# Altium footprint library DF37B-24DP-0.4V.PcbLib: 1 footprints
Each footprint in its own frame and in the unit in brackets; x right, y up, seen from the top. Pads: shape width x height; smd on the part's side, far side on the other; paste and mask are expansions set on the pad; w line width, h text height; cw(c..) or ccw(c..) is an arc to the next point about the centre after c.
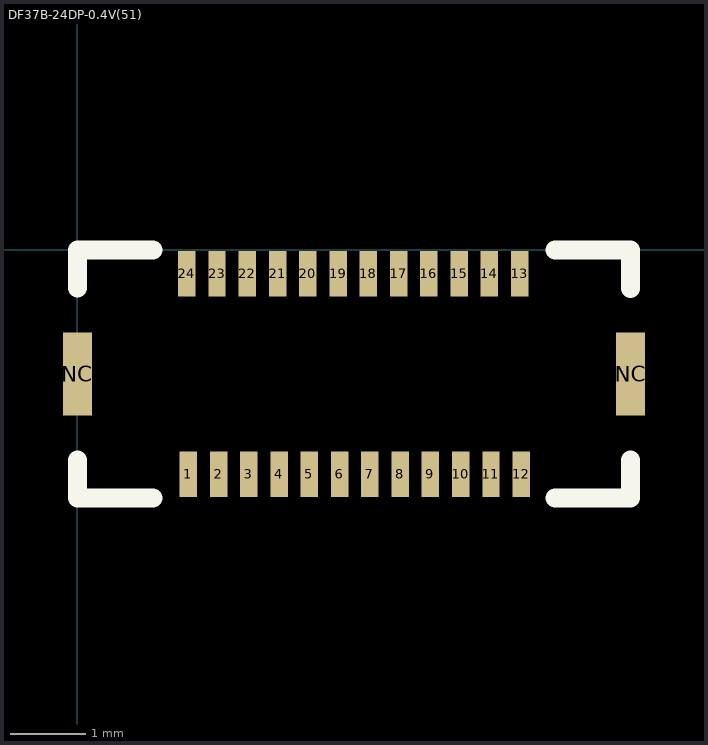
[diagram p0: the footprint, top view; thin cyan lines are the x and y axes]

## DF37B-24DP-0.4V(51) [mm]
pads (26):
  rect 0.23x0.6 smd: 1(1.465,-2.965) 2(1.865,-2.965) 3(2.265,-2.965) 4(2.665,-2.965) 5(3.065,-2.965) 6(3.465,-2.965) 7(3.865,-2.965) 8(4.265,-2.965) 9(4.665,-2.965) 10(5.065,-2.965) 11(5.465,-2.965) 12(5.865,-2.965) 13(5.845,-0.315) 14(5.445,-0.315) 15(5.045,-0.315) 16(4.645,-0.315) 17(4.245,-0.315) 18(3.845,-0.315) 19(3.445,-0.315) 20(3.045,-0.315) 21(2.645,-0.315) 22(2.245,-0.315) 23(1.845,-0.315) 24(1.445,-0.315)
  rect 0.38x1.1 smd: NC(0,-1.64) NC(7.31,-1.64)
Top Overlay:
  lines w0.254: 0,-2.78 0,-3.28 1,-3.28 ; 0,-0.5 0,0 1,0 ; 6.31,-3.28 7.31,-3.28 7.31,-2.78 ; 6.31,0 7.31,0 7.31,-0.51